# Altium schematic symbol library drvs-motor.SchLib: 80 symbols (part 2 of 2)
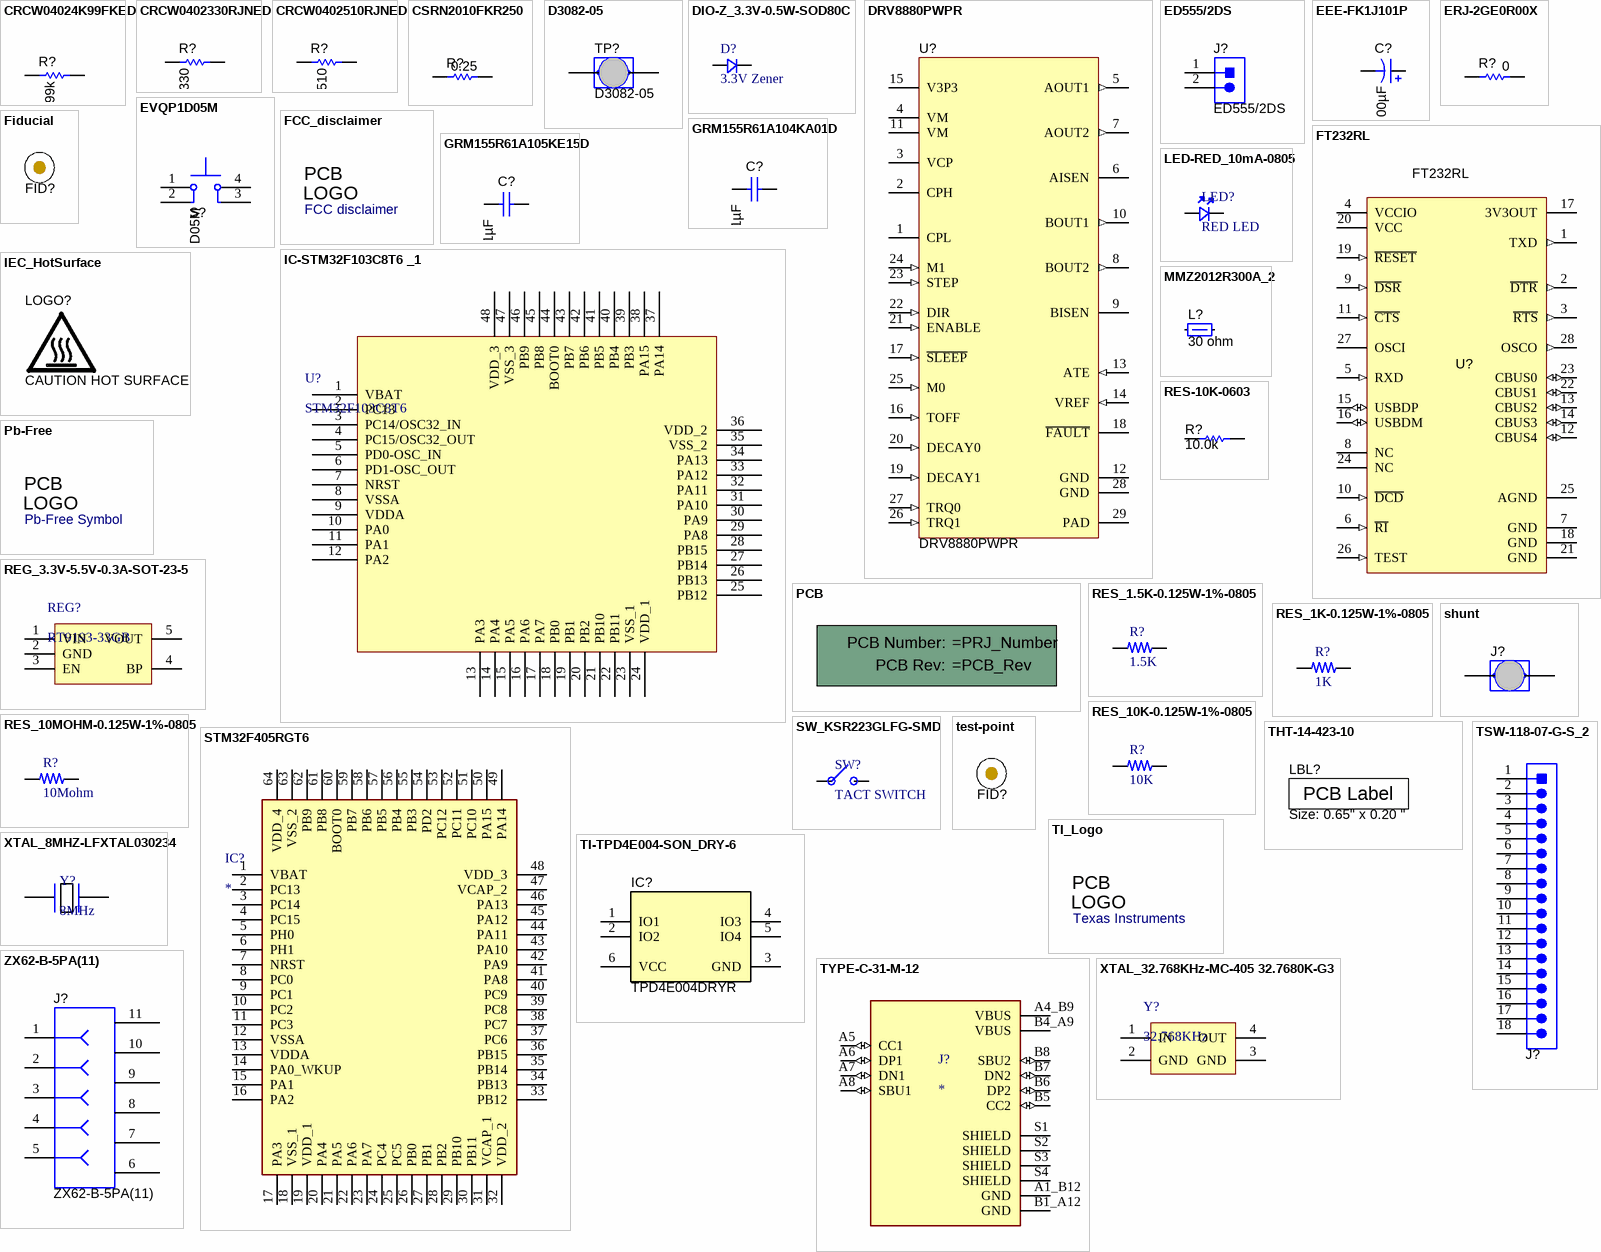
[diagram p2: symbols CRCW04024K99FKED to ZX62-B-5PA(11)]

## shunt
designator J?, comment D3082-05  (value not drawn)
1mm Uninsulated Shorting Plug, 10.16mm spacing, TH; Manufacturer: Harwin; CompType: Jumper Wire; Green_Lifecycle: Active; Green_REACh: Passed; CNHeader: False; PartNumber: D3082-05; PackageReference: Shorting Plug, 10.16mm spacing, TH; RoHS: Y; MountType: TH; ComponentLink1Description: Datasheet URL; ComponentLink1URL: http://cdn.harwin.com/pdfs/D3080-D3083.pdf; Publisher: Texas Instruments; LatestRevisionDate: 2017-07-12; Supplier 1: Digi-Key; Supplier Part Number 1: 952-1873-ND; Supplier 2: Newark; Supplier Part Number 2: 01E9240; Supplier 3: Mouser; Supplier Part Number 3: 855-D3082-05; Green_EU RoHS: Passed with Exemption; Green_EU RoHS-2: Passed; CT: False
footprint Harwin_D3082-05 (Shorting Plug, 10.16mm spacing, TH)
pins: 1, 2

## STM32F405RGT6
designator IC?
Integrated Circuit; Manufacturer_Name: STMicroelectronics; Manufacturer_Part_Number: STM32F405RGT6; Datasheet Link: http://www.st.com/web/en/resource/technical/document/datasheet/DM00037051.pdf; Height: 1.6mm; Mouser Part Number: 511-STM32F405RGT6; Mouser Price/Stock: https://www.mouser.co.uk/ProductDetail/STMicroelectronics/STM32F405RGT6?qs=Z8%252BeY1k3TIKgj7QWsYGpQw%3D%3D; Arrow Part Number: STM32F405RGT6; Arrow Price/Stock: https://www.arrow.com/en/products/stm32f405rgt6/stmicroelectronics?region=nac
footprint QFP50P1200X1200X160-64N
pins: 1 VBAT, 2 PC13, 3 PC14, 4 PC15, 5 PH0, 6 PH1, 7 NRST, 8 PC0, 9 PC1, 10 PC2, 11 PC3, 12 VSSA, 13 VDDA, 14 PA0_WKUP, 15 PA1, 16 PA2, 17 PA3, 18 VSS_1, 19 VDD_1, 20 PA4, 21 PA5, 22 PA6, 23 PA7, 24 PC4, 25 PC5, 26 PB0, 27 PB1, 28 PB2, 29 PB10, 30 PB11, 31 VCAP_1, 32 VDD_2, 33 PB12, 34 PB13, 35 PB14, 36 PB15, 37 PC6, 38 PC7, 39 PC8, 40 PC9, 41 PA8, 42 PA9, 43 PA10, 44 PA11, 45 PA12, 46 PA13, 47 VCAP_2, 48 VDD_3, 49 PA14, 50 PA15, 51 PC10, 52 PC11, 53 PC12, 54 PD2, 55 PB3, 56 PB4, 57 PB5, 58 PB6, 59 PB7, 60 BOOT0, 61 PB8, 62 PB9, 63 VSS_2, 64 VDD_4

## SW_KSR223GLFG-SMD
designator SW?, comment TACT SWITCH
Tactile Switch SPST-NO Top Actuated Surface Mount; Manufacturer: C&K; Manufacturing Part Number: KSR223GLFG; Case/Package: SMD; Supplier-1: Digikey; Supplier Part Number-1: 401-1704-1-ND
footprint SW_342_SMD (CASE: SMD)
pins: 1, 2

## test-point
designator FID?, comment Fiducial  (value not drawn)
Fiducial mark.  There is nothing to buy or mount.; CompType: Fiducial; Manufacturer: N/A; MountType: N/A; PackageReference: N/A; PartNumber: N/A; ClassName: FiducialMark; Library Reference: Fiducial
footprint Fiducial10-20

## THT-14-423-10
designator LBL?, comment Size: 0.65" x 0.20 "
Thermal Transfer Printable Labels, 0.650" W x 0.200" H - 10,000 per roll; Manufacturer: Brady; PartNumber: THT-14-423-10; SymbolCreator: a0412235; CompType: Label; SymbolVersion: 2012-06-12; ClassName: Label; RoHS: Y; PackageReference: PCB Label 0.650"H x 0.200"W; MountType: N/A; ComponentLink1Description: Web Page; ComponentLink1URL: http://www.bradyid.com/bradyid/pdpv/THT-14-423-10.html; Note: Size: 0.65" x 0.20 "; Publisher: Texas Instruments; LatestRevisionDate: 2015-06-11; Supplier 1: Farnell; Supplier Part Number 1: 2065596; Supplier 2: Newark; Supplier Part Number 2: 97C5133
footprint Label_650x200
text: PCB Label

## TI-TPD4E004-SON_DRY-6
designator IC?, comment TPD4E004DRYR
4-Channel ESD Protection Array for High-Speed Data Interfaces, DRY0006A (USON-6); Manufacturer: Texas Instruments; 1394 / Firewire: TRUE; Breakdown Voltage(Min)(V): 6; Eco-Plan: Green (RoHS & no Sb/Br); IEC 61000-4-2 Air-Gap(+/- kV): 12; IEC 61000-4-2 Contact(+/- kV): 8; IO Capacitance(Typ)(pF): 1.6; IO Leakage Current(nA): 1; AEC Category: Q200; AEC Qualified: N; CompType: IC; Rating: Catalog; SizeArea_mm2: 1.45; SizeAreaWB_mm2: 4.9; SizeX_mm: 1.0; SizeZ_mm: 0.6; PackageReference: DRY0006A; PackageDescription: USON-6; Serial ATA / eSATA: TRUE; USB High Speed: TRUE; MountType: SMT; PartNumber: TPD4E004DRYR; ComponentLink1Description: Datasheet Link; ComponentLink1URL: http://www.ti.com/lit/ds/symlink/tpd4e004.pdf; ComponentLink2Description: Product Folder; ComponentLink2URL: http://www.ti.com/product/tpd4e004; ComponentLink3Description: Online Datasheet; ComponentLink3URL: http://www.ti.com/product/tpd4e004/datasheet; Operating Temperature Range: -40 to 85 C; RoHS: Y; SizeY_mm: 1.45
footprint TPD4E004DRYRG4
pins: 1 IO1 "ESD-protected channel", 2 IO2 "ESD-protected channel", 3 GND (power) "Ground", 4 IO3 "ESD-protected channel", 5 IO4 "ESD-protected channel", 6 VCC (power) "Power-supply input"

## TI_Logo
designator Logo?, comment Texas Instruments  (no BOM)
Texas Instrument Corporate Signature; SymbolCreator: a0412235; SymbolVersion: 2011-08-22; Published: 2009-03-03; Publisher: Texas Instruments; ClassName: Logo; LatestRevisionDate: 2014-11-20
footprint TI_Stacked_SolderMask_Medium
footprint TI_Stacked_SolderMask_Medium_Vertical
footprint TI_Stacked_SolderMask_Small
footprint TI_Stacked_SolderMask_Small_Vertical
footprint TI_Stacked_Overlay_Medium
footprint TI_Stacked_Overlay_Medium_Vertical
footprint TI_Stacked_Overlay_Small
footprint TI_Stacked_Overlay_Small_Vertical
footprint TI_Horizontal_SolderMask_Small
footprint TI_Horizontal_Overlay_Medium
footprint TI_Horizontal_Overlay_Small
footprint TI_Symbol_SolderMask_Medium
footprint TI_Symbol_SolderMask_Small
footprint TI_Symbol_Overlay_Medium
footprint TI_Symbol_Overlay_Small
footprint TI_Horizontal_SolderMask_Medium
text: PCB; LOGO

## TSW-118-07-G-S_2
designator J?, comment TSW-118-07-G-S  (value not drawn)
Header, 100mil, 18x1, Gold, TH; Manufacturer: Samtec; SymbolCreator: a0411947; U/M: EA; ComponentLink1URL: http://samtec.com/ftppub/pdf/TSW_TH.PDF; SymbolVersion: 2013-12-22; PackageReference: 18x1 Header; PartNumber: TSW-118-07-G-S; ComponentLink1Description: Datasheet Link; Supplier 1: Digi-Key; Supplier Part Number 1: SAM1029-18-ND; MountType: TH; ClassName: Header; CompType: Header; RoHS: Y; Publisher: Texas Instruments; LatestRevisionDate: 2015-06-08
footprint TSW-118-07-G-S
pins: 1, 2, 3, 4, 5, 6, 7, 8, 9, 10, 11, 12, 13, 14, 15, 16, 17, 18

## TYPE-C-31-M-12
designator J?
USB Connectors 24 Receptacle 1 8.94*7.3mm RoHS; MF: HRO Electronics Co., Ltd.; MP: TYPE-C-31-M-12; Price: None; Value: *; SnapEDA_Link: https://www.snapeda.com/parts/TYPE-C-31-M-12/HRO+Electronics+Co.%252C+Ltd./view-part/?ref=snap; Package: Package; Availability: Not in stock; Check_prices: https://www.snapeda.com/parts/TYPE-C-31-M-12/HRO+Electronics+Co.%252C+Ltd./view-part/?ref=eda
footprint HRO_TYPE-C-31-M-12
pins: A1_B12 GND (power), A4_B9 VBUS (power), A5 CC1 (io), A6 DP1 (io), A7 DN1 (io), A8 SBU1 (io), B1_A12 GND (power), B4_A9 VBUS (power), B5 CC2 (io), B6 DP2 (io), B7 DN2 (io), B8 SBU2 (io), S1 SHIELD, S2 SHIELD, S3 SHIELD, S4 SHIELD

## XTAL_8MHZ-LFXTAL030234
designator Y?, comment 8MHz
Crystals 8MHz 22pF -20C 70C; Manufacturer: IQD Frequency Products; Manufacturing Part Number: LFXTAL030234Reel; Case/Package: SMD; Supplier-1: Mouser; Supplier Part Number-1: 449-LFXTAL030234REEL
footprint XTAL_314_240X47_SMD (CASE: TH)
pins: 1, 2

## XTAL_32.768KHz-MC-405 32.7680K-G3
designator Y?, comment 32.768KHz
Crystals SMD AT XTL MHZ +/-50PPM 12.5 PF 250 T/R; Manufacturer: Epson; Manufacturing Part Number: MC-405 32.7680K-G3: ROHS; Case/Package: SMD; Supplier-1: Mouser; Supplier Part Number-1: 732-MC405327680KG3RS
footprint XTAL_MC-405 32.7680K-G3 (Crystal)
pins: 1 IN, 2 GND, 3 GND, 4 OUT

## ZX62-B-5PA(11)
designator J?
Connector, Receptacle, Micro-USB Type B, R/A, Bottom Mount SMT; Manufacturer: Hirose Electric Co. Ltd.; SymbolCreator: a0411947; U/M: EA; SymbolVersion: 2013-04-05; PartNumber: ZX62-B-5PA(11); PackageReference: Micro USB-B receptacle; CompType: Receptacle; RoHS: Y; MountType: SMT; ComponentLink1Description: Datasheet Link; ComponentLink1URL: http://www.hirose.co.jp/cataloge_hp/e24200011.pdf; Publisher: Texas Instruments; LatestRevisionDate: 2015-06-10; Supplier 1: Digi-Key; Supplier Part Number 1: H11634CT-ND; Supplier 2: Mouser; Supplier Part Number 2: 798-ZX62-B-5PA11; Supplier 3: Farnell; Supplier Part Number 3: 1645325
footprint CONN_USB_micro_ZX62-B-5PA
pins: 1, 2, 3, 4, 5, 6, 7, 8, 9, 10, 11